# Altium footprint library 电子脚铐本体主控板V3.PcbLib: 13 footprints
Each footprint in its own frame and in the unit in brackets; x right, y up, seen from the top. Pads: shape width x height; smd on the part's side, far side on the other; paste and mask are expansions set on the pad; w line width, h text height; cw(c..) or ccw(c..) is an arc to the next point about the centre after c.
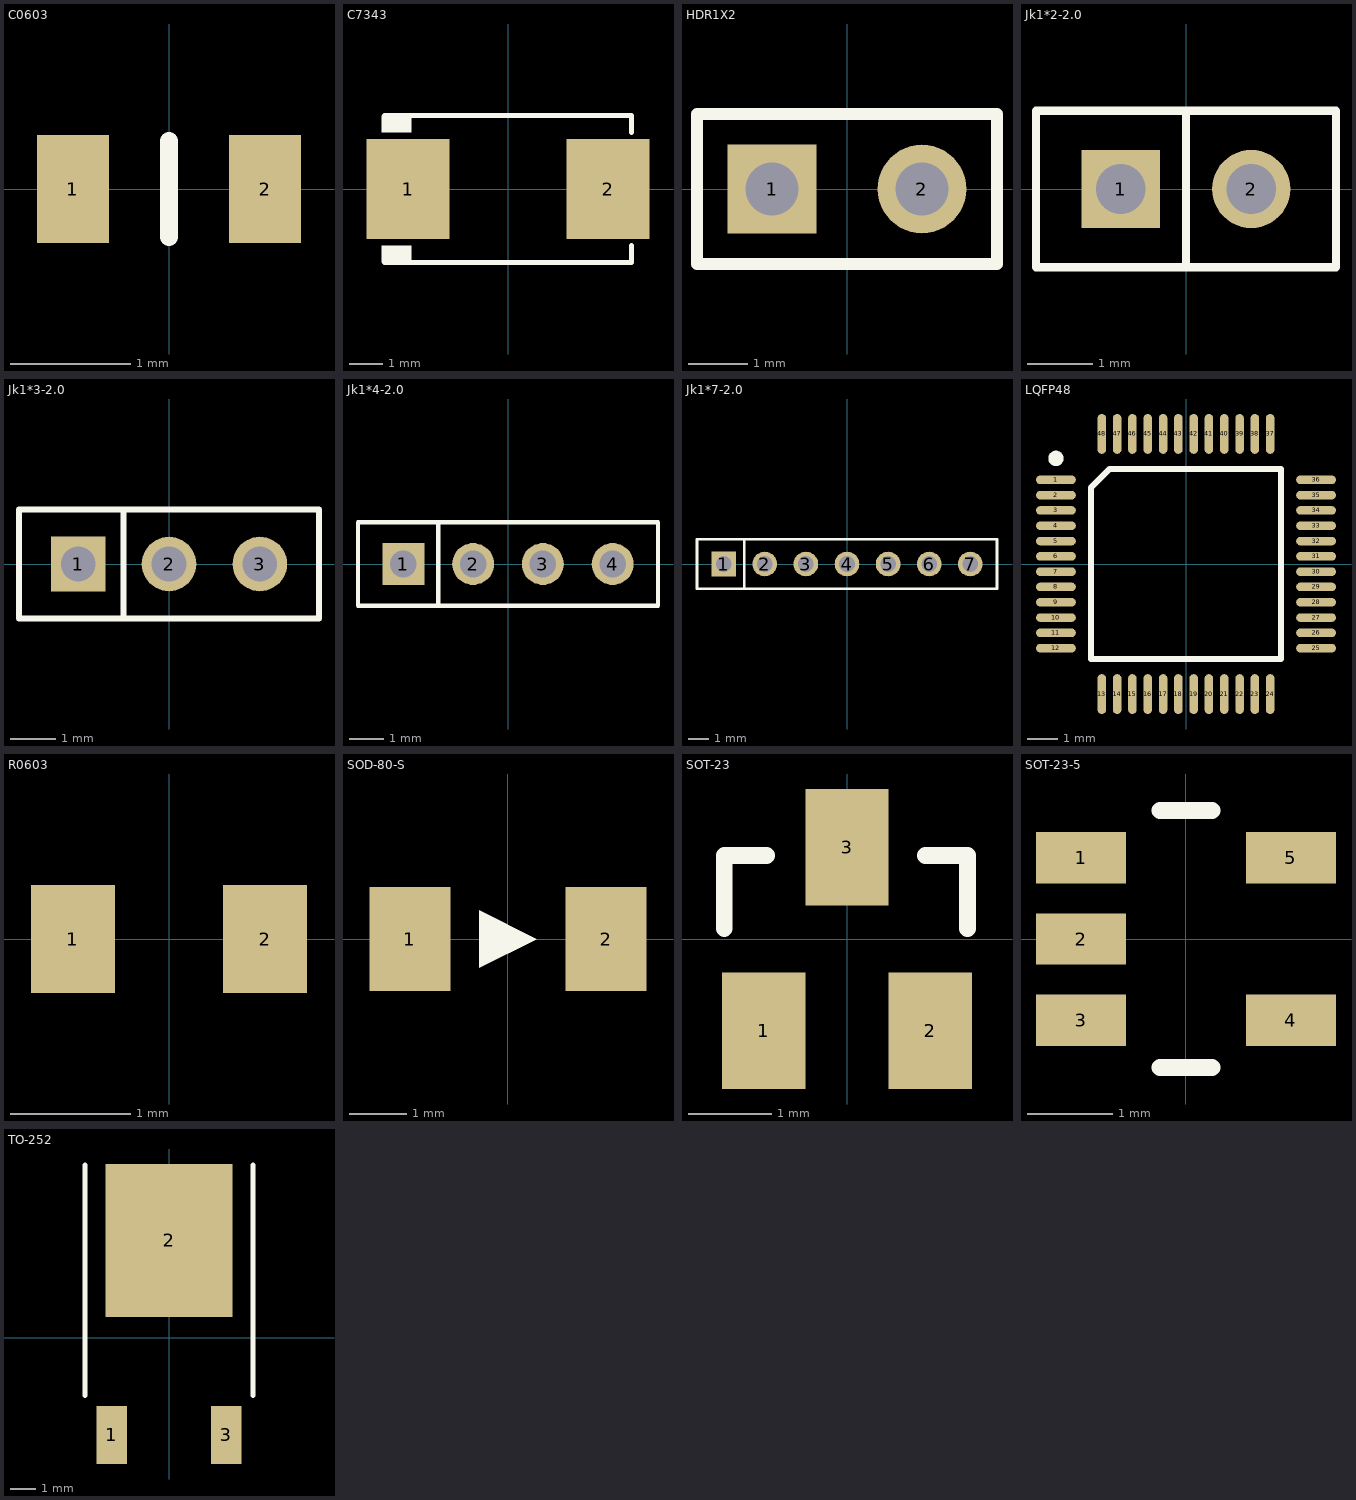
[diagram p0: the footprints below, top view; thin cyan lines are the x and y axes]

## C0603 [mm]
height 0.8
pads (2):
  rect 0.6x0.9 smd: 1(-0.8,0) 2(0.8,0)
Top Overlay:
  lines w0.152: 0,-0.4 0,0.4
3D body: height 0.5, standoff 0, extent -0.8,-0.4 0.8,0.4

## C7343 [mm] "100uF/25V"
height 4.2
pads (2):
  rect 2.5x3 smd: 1(-3,0) 2(3,0)
Top Overlay:
  rectangle: -3.8,-2.2 -2.9,-1.7
  rectangle: -3.8,1.7 -2.9,2.2
  lines w0.152: -3.7,-2.2 3.7,-2.2 3.7,-1.7 ; -3.7,2.2 3.7,2.2 3.7,1.7
3D body: height 2.9, standoff 0, extent -3.874,-2.15 3.875,2.15

## HDR1X2 [mm] "Connector; Header; 2 Position"
height 4.3
pads (2):
  rect 1.5x1.5 hole 0.9: 1(-1.27,0)
  round 1.5 hole 0.9: 2(1.27,0)
Top Overlay:
  lines w0.2: -2.54,-1.27 2.54,-1.27 2.54,1.27 -2.54,1.27 -2.54,-1.27

## Jk1*2-2.0 [mm]
height 4.3
pads (2):
  rect 1.2x1.2 hole 0.762: 1(-1,0)
  round 1.2 hole 0.762: 2(1,0)
Top Overlay:
  lines w0.127: 0,-1.2 0,1.2 ; -2.3,-1.2 2.3,-1.2 2.3,1.2 -2.3,1.2 -2.3,-1.2

## Jk1*3-2.0 [mm]
height 4.3
pads (3):
  rect 1.2x1.2 hole 0.762: 1(-2,0)
  round 1.2 hole 0.762: 2(0,0) 3(2,0)
Top Overlay:
  lines w0.127: -1,-1.2 -1,1.2 ; -3.3,-1.2 3.3,-1.2 3.3,1.2 -3.3,1.2 -3.3,-1.2

## Jk1*4-2.0 [mm] "4P，直插，2.0mm间距，排母"
height 4.3
pads (4):
  rect 1.2x1.2 hole 0.762: 1(-3,0)
  round 1.2 hole 0.762: 2(-1,0) 3(1,0) 4(3,0)
Top Overlay:
  lines w0.127: -2,-1.2 -2,1.2 ; -4.3,-1.2 4.3,-1.2 4.3,1.2 -4.3,1.2 -4.3,-1.2
3D body: height 4.3, standoff -3, extent -4.25,-1.225 4.25,1.175

## Jk1*7-2.0 [mm]
height 4.3
pads (7):
  rect 1.2x1.2 hole 0.762: 1(-6,0)
  round 1.2 hole 0.762: 2(-4,0) 3(-2,0) 4(0,0) 5(2,0) 6(4,0) 7(6,0)
Top Overlay:
  lines w0.127: -5,-1.2 -5,1.2 ; -7.3,-1.2 -7.3,1.2 7.3,1.2 7.3,-1.2 -7.3,-1.2

## LQFP48 [mm]
height 1.6
pads (48):
  oval 1.3x0.28 smd: 1(-4.25,2.75) 2(-4.25,2.25) 3(-4.25,1.75) 4(-4.25,1.25) 5(-4.25,0.75) 6(-4.25,0.25) 7(-4.25,-0.25) 8(-4.25,-0.75) 9(-4.25,-1.25) 10(-4.25,-1.75) 11(-4.25,-2.25) 12(-4.25,-2.75) 25(4.25,-2.75) 26(4.25,-2.25) 27(4.25,-1.75) 28(4.25,-1.25) 29(4.25,-0.75) 30(4.25,-0.25) 31(4.25,0.25) 32(4.25,0.75) 33(4.25,1.25) 34(4.25,1.75) 35(4.25,2.25) 36(4.25,2.75)
  oval 0.28x1.3 smd: 13(-2.75,-4.25) 14(-2.25,-4.25) 15(-1.75,-4.25) 16(-1.25,-4.25) 17(-0.75,-4.25) 18(-0.25,-4.25) 19(0.25,-4.25) 20(0.75,-4.25) 21(1.25,-4.25) 22(1.75,-4.25) 23(2.25,-4.25) 24(2.75,-4.25) 37(2.75,4.25) 38(2.25,4.25) 39(1.75,4.25) 40(1.25,4.25) 41(0.75,4.25) 42(0.25,4.25) 43(-0.25,4.25) 44(-0.75,4.25) 45(-1.25,4.25) 46(-1.75,4.25) 47(-2.25,4.25) 48(-2.75,4.25)
Top Overlay:
  circle w0.25: c-4.25,3.45 r0.125
  lines w0.203: -3.1,-3.1 -3.1,2.5 -2.5,3.1 3.1,3.1 3.1,-3.1 -3.1,-3.1
3D body: height 1.8, standoff -0.01, extent -4.495,-4.5 4.505,4.5

## R0603 [mm]
height 0.4
pads (2):
  rect 0.7x0.9 smd: 1(-0.8,0) 2(0.8,0)
3D body: height 0.37, standoff 0, extent -0.8,-0.401 0.8,0.401

## SOD-80-S [mm]
height 4.3
pads (2):
  rect 1.4x1.8 smd: 1(-1.7,0) 2(1.7,0)
Top Overlay:
  region: -0.5,0.5 -0.5,-0.5 0.5,0
3D body: height 1.6, standoff 0, extent -1.85,-0.787 1.85,0.813

## SOT-23 [mm]
height 4.3
pads (3):
  rect 1x1.4 smd: 1(-1,-1.1) 2(1,-1.1) 3(0,1.1)
Top Overlay:
  lines w0.203: -1.473,0.127 -1.473,1 -0.965,1 ; 0.94,1 1.448,1 1.448,0.127
3D body: height 1.3, standoff 0, extent -1.45,-1.4 1.45,1.4

## SOT-23-5 [mm]
height 4.3
pads (5):
  rect 1.05x0.6 smd: 1(-1.225,0.95) 2(-1.225,0) 3(-1.225,-0.95) 4(1.225,-0.95) 5(1.225,0.95)
Top Overlay:
  lines w0.2: -0.3,-1.5 0.3,-1.5 ; -0.3,1.5 0.3,1.5
3D body: height 1.2, standoff -0.02, extent -1.5,-1.5 1.5,1.5

## TO-252 [mm]
height 2.4
pads (3):
  rect 1.2x2.28 smd: 1(-2.25,-3.816) 3(2.25,-3.816)
  rect 5x6 smd: 2(0,3.816)
Top Overlay:
  lines w0.203: -3.3,-2.274 -3.3,6.776 ; 3.3,-2.274 3.3,6.776
3D body: height 2.3, standoff 0, extent -3.25,-3.62 3.25,5.68